# Altium schematic symbol library R-ERJ-1TYJ564U.Schlib: 1 symbol
Pins are listed as number, name and electrical type; pins without a type are passive.

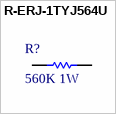
[diagram p0: symbol R-ERJ-1TYJ564U]

## R-ERJ-1TYJ564U
designator R?, comment 560K 1W
Thick Film Resistors - SMD 2512 560Kohms 5% Tolerance
pins: 1, 2